# Altium footprint library SOD-723.PcbLib: 1 footprints
Each footprint in its own frame and in the unit in brackets; x right, y up, seen from the top. Pads: shape width x height; smd on the part's side, far side on the other; paste and mask are expansions set on the pad; w line width, h text height; cw(c..) or ccw(c..) is an arc to the next point about the centre after c.
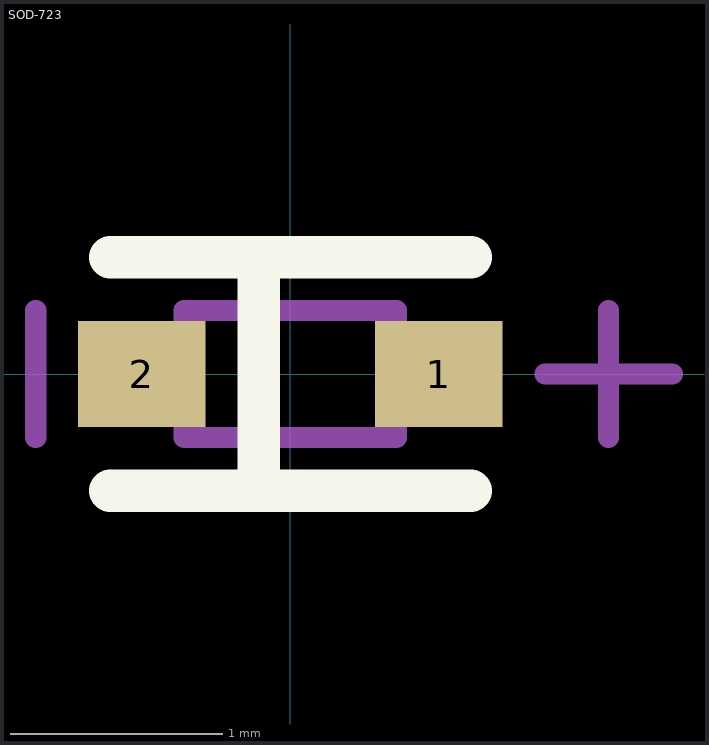
[diagram p0: the footprint, top view; thin cyan lines are the x and y axes]

## SOD-723 [mm]
pads (2):
  rect 0.6x0.5 smd: 1(0.7,0) 2(-0.7,0)
Top Overlay:
  lines w0.2: -0.85,-0.55 0.85,-0.55 ; -0.85,0.55 0.85,0.55 ; -0.15,-0.55 -0.15,0.55
Mechanical 13:
  lines w0.1: -0.5,-0.3 -0.5,0.3 0.5,0.3 0.5,-0.3 -0.5,-0.3
Mechanical 15:
  lines w0.1: -1.2,-0.3 -1.2,0.3 ; 1.2,0 1.8,0 ; 1.5,-0.3 1.5,0.3